# Altium integrated library ST ARM32.IntLib: 5 symbols
Pins are listed as number, name and electrical type; pins without a type are passive.

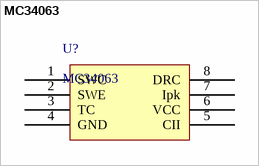
[diagram p0: symbol MC34063]

## MC34063
designator U?
DC/DC converter control circuit; ComponentLink1Description: Datasheet; ComponentLink1URL: https://www.terraelectronica.ru/show_pdf.php?pdf=%2Fds%2Fpdf%2Fm%2Fmc34063acd-tr.pdf; HelpURL: MC34063; Supplier 1: Terraelectronica; Supplier Part Number 1: 356799; Supplier 2: Elgrad; Supplier Part Number 2: 30445; Supplier 3: Compel; Supplier Part Number 3: MC34063AG- S08-T(R)
footprint SOP8 (SOP, 8-Leads, Body 4.90x3.90mm, Pitch 1.27mm, IPC Medium Density)
pins: 1 SWC, 2 SWE, 3 TC, 4 GND, 5 CII, 6 VCC, 7 Ipk, 8 DRC


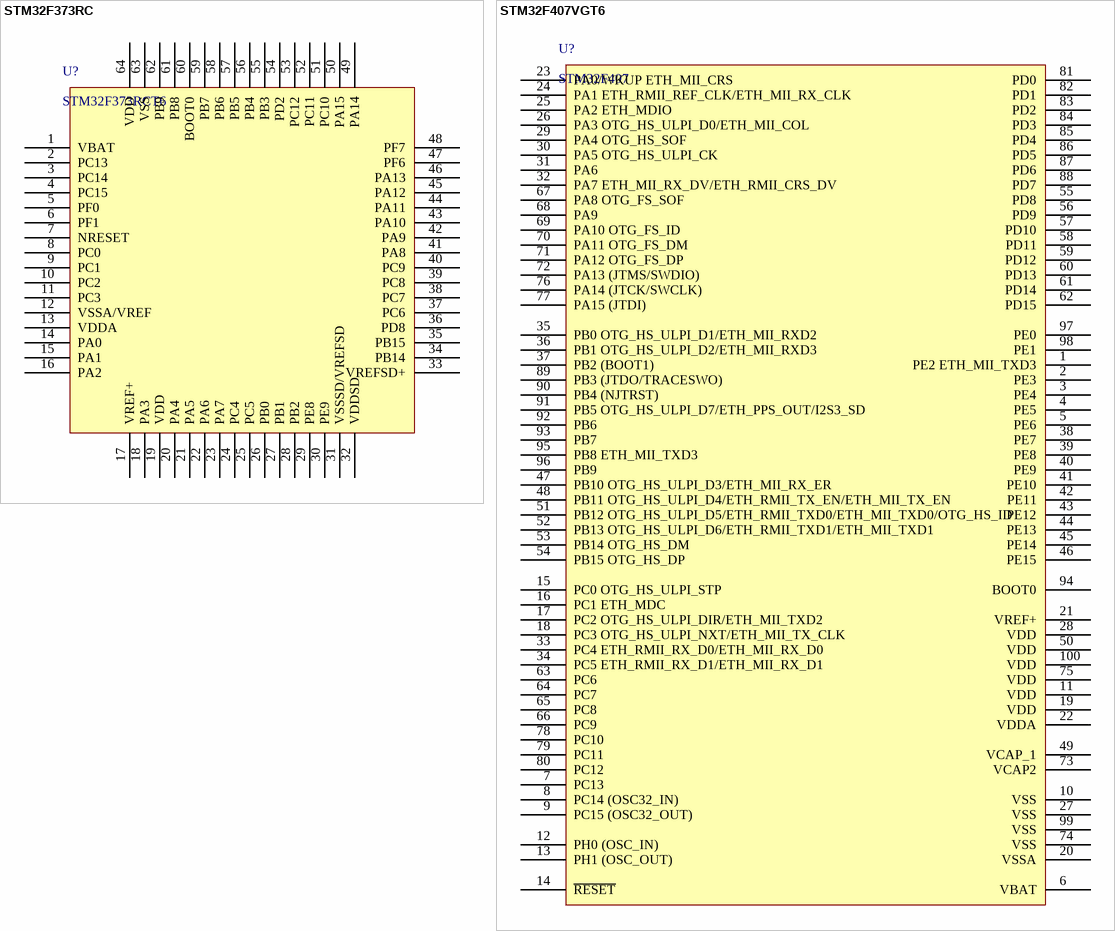
[diagram p1: symbols STM32F373RC to STM32F407VGT6]

## STM32F373RC
designator U?, comment STM32F373RCT6
ARM Cortex-M4 Microcontroller; Manufacturer: ST Microelectronics; Reference Manual Document: http://www.st.com/st-web-ui/static/active/en/resource/technical/document/datasheet/DM00046749.pdf; Type: Microcontroller
footprint LQFP64
pins: 1 VBAT, 2 PC13, 3 PC14, 4 PC15, 5 PF0, 6 PF1, 7 NRESET, 8 PC0, 9 PC1, 10 PC2, 11 PC3, 12 VSSA/VREF, 13 VDDA, 14 PA0, 15 PA1, 16 PA2, 17 VREF+, 18 PA3, 19 VDD, 20 PA4, 21 PA5, 22 PA6, 23 PA7, 24 PC4, 25 PC5, 26 PB0, 27 PB1, 28 PB2, 29 PE8, 30 PE9, 31 VSSSD/VREFSD, 32 VDDSD, 33 VREFSD+, 34 PB14, 35 PB15, 36 PD8, 37 PC6, 38 PC7, 39 PC8, 40 PC9, 41 PA8, 42 PA9, 43 PA10, 44 PA11, 45 PA12, 46 PA13, 47 PF6, 48 PF7, 49 PA14, 50 PA15, 51 PC10, 52 PC11, 53 PC12, 54 PD2, 55 PB3, 56 PB4, 57 PB5, 58 PB6, 59 PB7, 60 BOOT0, 61 PB8, 62 PB9, 63 VSS, 64 VDD

## STM32F407VGT6
designator U?, comment STM32F407
ST Microcontroller ARM 32-bit Cortex M4
footprint LQFP100
pins: 1 PE2 ETH_MII_TXD3, 2 PE3, 3 PE4, 4 PE5, 5 PE6, 6 VBAT, 7 PC13, 8 PC14 (OSC32_IN), 9 PC15 (OSC32_OUT), 10 VSS, 11 VDD, 12 PH0 (OSC_IN), 13 PH1 (OSC_OUT), 14 ~{RESET}, 15 PC0 OTG_HS_ULPI_STP, 16 PC1 ETH_MDC, 17 PC2 OTG_HS_ULPI_DIR/ETH_MII_TXD2 , 18 PC3 OTG_HS_ULPI_NXT/ETH_MII_TX_CLK  , 19 VDD, 20 VSSA, 21 VREF+, 22 VDDA, 23 PA0/WKUP ETH_MII_CRS "USART2_CTS/UART4_TX/ETH_MII_CRS/TIM2_CH1_ETR/TIM5_CH1/TIM8_ETR", 24 PA1 ETH_RMII_REF_CLK/ETH_MII_RX_CLK "USART2_RTS/UART4_RX/ETH_RMII_REF_CLK/ETH_MII_RX_CLK/TIM5_CH2/TIM2_CH2", 25 PA2 ETH_MDIO "USART2_TX/TIM5_CH3/TIM9_CH1/TIM2_CH3/ETH_MDIO", 26 PA3 OTG_HS_ULPI_D0/ETH_MII_COL "USART2_RX/TIM5_CH4/TIM9_CH2/TIM2_CH4/OTG_HS_ULPI_D0/ETH_MII_COL", 27 VSS, 28 VDD, 29 PA4 OTG_HS_SOF "USART2_CK/DCMI_HSYNC/OTG_HS_SOF/I2S3_WS", 30 PA5 OTG_HS_ULPI_CK "SPI1_SCK/OTG_HS_ULPI_CK/TIM2_CH1_ETR/TIM8_CH1N", 31 PA6  "SPI1_MISO/TIM8_BKIN/TIM13_CH1/DCMI_PIXCLK/TIM3_CH1/TIM1_BKIN", 32 PA7 ETH_MII_RX_DV/ETH_RMII_CRS_DV "SPI1_MOSI/TIM8_CH1N/TIM14_CH1/TIM3_CH2/ETH_MII_RX_DV/TIM1_CH1N/ETH_RMII_CRS_DV", 33 PC4 ETH_RMII_RX_D0/ETH_MII_RX_D0, 34 PC5 ETH_RMII_RX_D1/ETH_MII_RX_D1, 35 PB0 OTG_HS_ULPI_D1/ETH_MII_RXD2 "TIM3_CH3/TIM8_CH2N/OTG_HS_ULPI_D1/ETH_MII_RXD2/TIM1_CH2N", 36 PB1 OTG_HS_ULPI_D2/ETH_MII_RXD3 "TIM3_CH4/TIM8_CH3N/OTG_HS_ULPI_D2/ETH_MII_RXD3/TIM1_CH3N", 37 PB2 (BOOT1), 38 PE7, 39 PE8, 40 PE9, 41 PE10, 42 PE11, 43 PE12, 44 PE13, 45 PE14, 46 PE15, 47 PB10 OTG_HS_ULPI_D3/ETH_MII_RX_ER "SPI2_SCK/I2S2_CK/I2C2_SCL/USART3_TX/OTG_HS_ULPI_D3/ETH_MII_RX_ER/TIM2_CH3", 48 PB11 OTG_HS_ULPI_D4/ETH_RMII_TX_EN/ETH_MII_TX_EN "I2C2_SDA/USART3_RX/OTG_HS_ULPI_D4/ETH_RMII_TX_EN/ETH_MII_TX_EN/TIM2_CH4", 49 VCAP_1, 50 VDD, 51 PB12 OTG_HS_ULPI_D5/ETH_RMII_TXD0/ETH_MII_TXD0/OTG_HS_ID "SPI2_NSS/I2S2_WS/I2C2_SMBA/USART3_CK/TIM1_BKIN/CAN2_RX/OTG_HS_ULPI_D5/ETH_RMII_TXD0/ETH_MII_TXD0/OTG_HS_ID", 52 PB13 OTG_HS_ULPI_D6/ETH_RMII_TXD1/ETH_MII_TXD1 "SPI2_SCK/I2S2_CK/USART3_CTS/TIM1_CH1N/CAN2_TX/OTG_HS_ULPI_D6/ETH_RMII_TXD1/ETH_MII_TXD1", 53 PB14 OTG_HS_DM "SPI2_MISO/TIM1_CH2N/TIM12_CH1/OTG_HS_DM/USART3_RTS/TIM8_CH2N/I2S2ext_SD", 54 PB15 OTG_HS_DP "SPI2_MOSI/ I2S2_SD/TIM1_CH3N/TIM8_CH3N/TIM12_CH2/OTG_HS_DP", 55 PD8, 56 PD9, 57 PD10, 58 PD11, 59 PD12, 60 PD13, 61 PD14, 62 PD15, 63 PC6, 64 PC7, 65 PC8, 66 PC9, 67 PA8 OTG_FS_SOF "MCO1/USART1_CK/TIM1_CH1/I2C3_SCL/OTG_FS_SOF", 68 PA9  "USART1_TX/TIM1_CH2/I2C3_SMBA/DCMI_D0", 69 PA10 OTG_FS_ID "USART1_RX/TIM1_CH3/OTG_FS_ID/DCIM_D1", 70 PA11 OTG_FS_DM "USART1_CTS/CAN1_RX/TIM1_CH4/OTG_FS_DM", 71 PA12 OTG_FS_DP "USART1_RTS/CAN1_TX/TIM1_ETR/OTG_FS_DP", 72 PA13 (JTMS/SWDIO), 73 VCAP2, 74 VSS, 75 VDD, 76 PA14 (JTCK/SWCLK), 77 PA15 (JTDI), 78 PC10, 79 PC11, 80 PC12, 81 PD0, 82 PD1, 83 PD2, 84 PD3, 85 PD4, 86 PD5, 87 PD6, 88 PD7, 89 PB3 (JTDO/TRACESWO) "SPI3_SCK/I2S3_CK/TIM2_CH2/SPI1_SCK", 90 PB4 (NJTRST) "SPI3_MISO/TIM3_CH1/SPI1_MISO/I2Sext_SD", 91 PB5 OTG_HS_ULPI_D7/ETH_PPS_OUT/I2S3_SD "I2C1_SMBA/CAN2_RX/OTG_HS_ULPI_D7/ETH_PPS_OUT/TIM3_CH2/SPI1_MOSI/SPI3_MOSI/DCMI_D10/I2S3_SD", 92 PB6 "I2C1_SCL/TIM4_CH1/CAN2_TX/DCMI_D5/USART1_TX", 93 PB7 "I2C1_SDA/FSMC_NL/DCMI_VSYNC/USART1_RX/TIM4_CH2", 94 BOOT0, 95 PB8 ETH_MII_TXD3 "TIM4_CH3/SDIO_D4/TIM10_CH1/DCMI_D6/ETH_MII_TXD3/I2C1_SCL/CAN1_RX", 96 PB9 "SPI2_NSS/I2S2_WS/TIM4_CH4/TIM11_CH1/SDIO_D5/DCMI_D7/I2C1_SDA/CAN1_TX", 97 PE0, 98 PE1, 99 VSS, 100 VDD

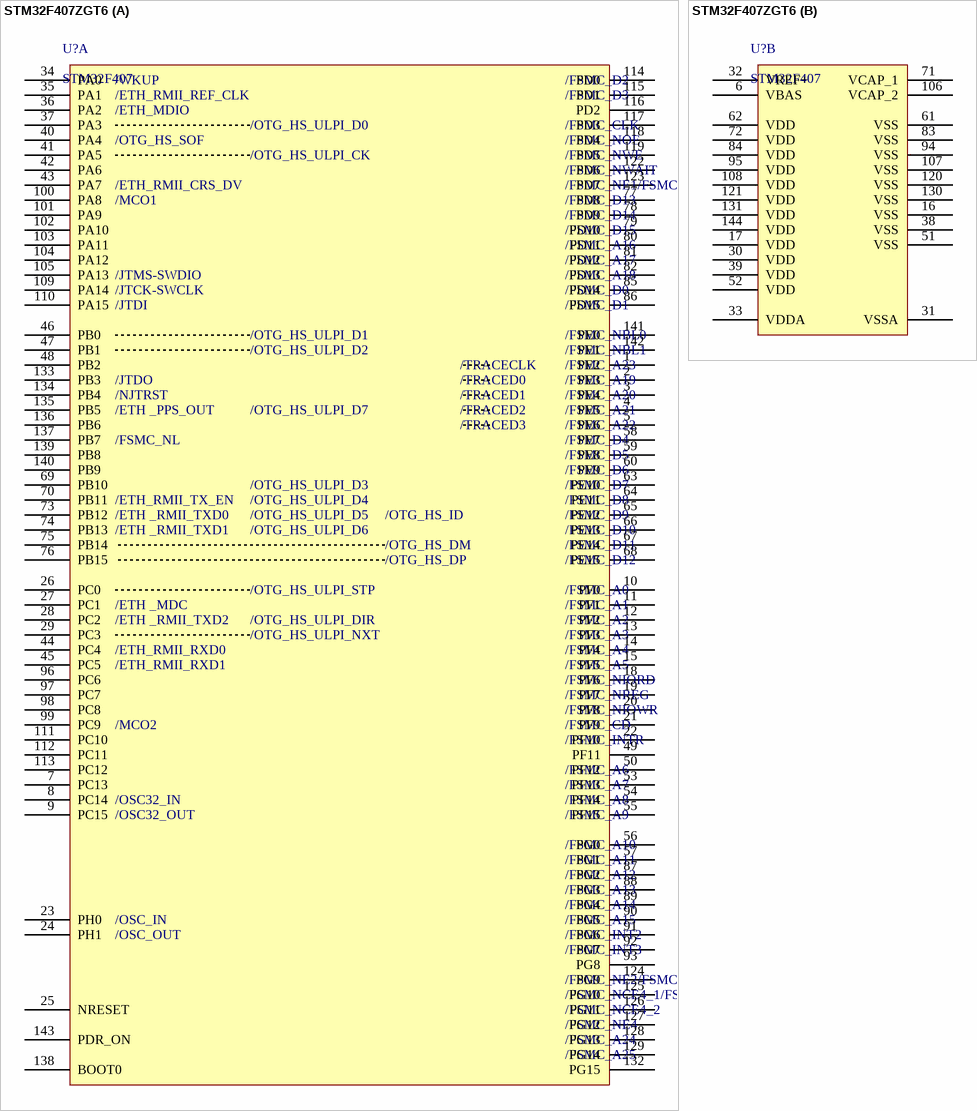
[diagram p2: symbol STM32F407ZGT6]

## STM32F407ZGT6
designator U?, comment STM32F407
ST Microcontroller ARM 32-bit Cortex M4
footprint LQFP144 (TSQFP, 144-Leads, Body 20.00x20.00mm, Pitch 0.50mm, IPC Medium Density)
part A pins: 1 PE2, 2 PE3, 3 PE4, 4 PE5, 5 PE6, 7 PC13, 8 PC14, 9 PC15, 10 PF0, 11 PF1, 12 PF2, 13 PF3, 14 PF4, 15 PF5, 18 PF6, 19 PF7, 20 PF8, 21 PF9, 22 PF10, 23 PH0, 24 PH1, 25 NRESET, 26 PC0, 27 PC1, 28 PC2, 29 PC3, 34 PA0, 35 PA1, 36 PA2, 37 PA3, 40 PA4, 41 PA5, 42 PA6, 43 PA7, 44 PC4, 45 PC5, 46 PB0, 47 PB1, 48 PB2, 49 PF11, 50 PF12, 53 PF13, 54 PF14, 55 PF15, 56 PG0, 57 PG1, 58 PE7, 59 PE8, 60 PE9, 63 PE10, 64 PE11, 65 PE12, 66 PE13, 67 PE14, 68 PE15, 69 PB10, 70 PB11, 73 PB12, 74 PB13, 75 PB14, 76 PB15, 77 PD8, 78 PD9, 79 PD10, 80 PD11, 81 PD12, 82 PD13, 85 PD14, 86 PD15, 87 PG2, 88 PG3, 89 PG4, 90 PG5, 91 PG6, 92 PG7, 93 PG8, 96 PC6, 97 PC7, 98 PC8, 99 PC9, 100 PA8, 101 PA9, 102 PA10, 103 PA11, 104 PA12, 105 PA13, 109 PA14, 110 PA15, 111 PC10, 112 PC11, 113 PC12, 114 PD0, 115 PD1, 116 PD2, 117 PD3, 118 PD4, 119 PD5, 122 PD6, 123 PD7, 124 PG9, 125 PG10, 126 PG11, 127 PG12, 128 PG13, 129 PG14, 132 PG15, 133 PB3, 134 PB4, 135 PB5, 136 PB6, 137 PB7, 138 BOOT0, 139 PB8, 140 PB9, 141 PE0, 142 PE1, 143 PDR_ON
part B pins: 6 VBAS, 16 VSS, 17 VDD, 30 VDD, 31 VSSA, 32 VREF+, 33 VDDA, 38 VSS, 39 VDD, 51 VSS, 52 VDD, 61 VSS, 62 VDD, 71 VCAP_1, 72 VDD, 83 VSS, 84 VDD, 94 VSS, 95 VDD, 106 VCAP_2, 107 VSS, 108 VDD, 120 VSS, 121 VDD, 130 VSS, 131 VDD, 144 VDD
part A text: /WKUP; /FSMC_D2; /ETH_RMII_REF_CLK; /FSMC_D3; /ETH_MDIO; /OTG_HS_ULPI_D0; /FSMC_CLK; /OTG_HS_SOF; /FSMC_NOE; /OTG_HS_ULPI_CK; /FSMC_NWE; /FSMC_NWAIT; /ETH_RMII_CRS_DV; /FSMC_NE1/FSMC_NCE2; /MCO1; /FSMC_D13; /FSMC_D14; /FSMC_D15; /FSMC_A16; /FSMC_A17; /JTMS-SWDIO; /FSMC_A18; /JTCK-SWCLK; /FSMC_D0; /JTDI; /FSMC_D1; /OTG_HS_ULPI_D1; /FSMC_NBL0; /OTG_HS_ULPI_D2; /FSMC_NBL1; /TRACECLK; /FSMC_A23; /JTDO; /TRACED0; /FSMC_A19; /NJTRST; /TRACED1; /FSMC_A20; /ETH _PPS_OUT; /OTG_HS_ULPI_D7; /TRACED2; /FSMC_A21; /TRACED3; /FSMC_A22; /FSMC_NL; /FSMC_D4; /FSMC_D5; /FSMC_D6; /OTG_HS_ULPI_D3; /FSMC_D7; /ETH_RMII_TX_EN; /OTG_HS_ULPI_D4; /FSMC_D8; /ETH _RMII_TXD0; /OTG_HS_ULPI_D5; /OTG_HS_ID; /FSMC_D9; /ETH _RMII_TXD1; /OTG_HS_ULPI_D6; /FSMC_D10; /OTG_HS_DM; /FSMC_D11; /OTG_HS_DP; /FSMC_D12; /OTG_HS_ULPI_STP; /FSMC_A0; /ETH _MDC; /FSMC_A1; /ETH _RMII_TXD2; /OTG_HS_ULPI_DIR; /FSMC_A2; /OTG_HS_ULPI_NXT; /FSMC_A3; /ETH_RMII_RXD0; /FSMC_A4; /ETH_RMII_RXD1; /FSMC_A5; /FSMC_NIORD; /FSMC_NREG; /FSMC_NIOWR; /MCO2; /FSMC_CD; /FSMC_INTR; /FSMC_A6; /FSMC_A7; /OSC32_IN; /FSMC_A8; /OSC32_OUT; /FSMC_A9; /FSMC_A10; /FSMC_A11; /FSMC_A12; /FSMC_A13; /FSMC_A14; /OSC_IN; /FSMC_A15; /OSC_OUT; /FSMC_INT2; /FSMC_INT3; /FSMC_NE2/FSMC_NCE3; /FSMC_NCE4_1/FSMC_NE3; /FSMC_NCE4_2; /FSMC_NE4; /FSMC_A24; /FSMC_A25


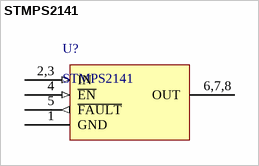
[diagram p3: symbol STMPS2141]

## STMPS2141
designator U?
Enhanced single channel power switch; Manual: http://www.st.com/web/en/resource/technical/document/datasheet/CD00167470.pdf
footprint SOP8
footprint SOP8 (SOP, 8-Leads, Body 4.90x3.90mm, Pitch 1.27mm, IPC Medium Density)
footprint SOP8 (SOP, 8-Leads, Body 4.90x3.90mm, Pitch 1.27mm, IPC Medium Density)
pins: 1 GND (power), 2,3 IN (in), 4 ~{EN} (in), 5 ~{FAULT} (out), 6,7,8 OUT